# Altium footprint library 691 322 110 0xx.PcbLib: 6 footprints
Each footprint in its own frame and in the unit in brackets; x right, y up, seen from the top. Pads: shape width x height; smd on the part's side, far side on the other; paste and mask are expansions set on the pad; w line width, h text height; cw(c..) or ccw(c..) is an arc to the next point about the centre after c.
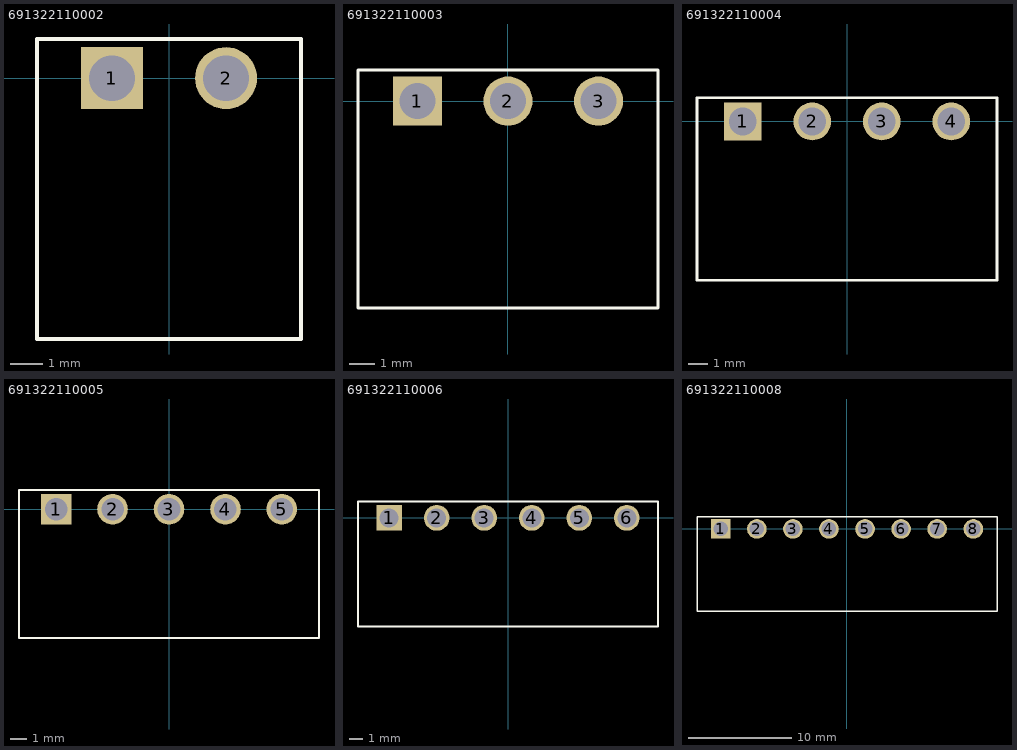
[diagram p0: the footprints below, top view; thin cyan lines are the x and y axes]

## 691322110002 [mm] "3,50mm - PCB Horizontal - 02p"
height 7
pads (2):
  rect 1.9x1.9 hole 1.4: 1(-1.75,0)
  round 1.9 hole 1.4: 2(1.75,0)
Top Overlay:
  lines w0.127: -4.05,-8 4.05,-8 4.05,1.2 -4.05,1.2 -4.05,-8
3D body: height 7.21, standoff -3.49, extent -4.05,-8 4.05,1.2

## 691322110003 [mm] "3,50mm - PCB Horizontal - 03p"
height 7
pads (3):
  rect 1.9x1.9 hole 1.4: 1(-3.5,0)
  round 1.9 hole 1.4: 2(0,0) 3(3.5,0)
Top Overlay:
  lines w0.127: -5.8,-8 5.8,-8 5.8,1.2 -5.8,1.2 -5.8,-8
3D body: height 7.21, standoff -3.49, extent -5.8,-8 5.8,1.2

## 691322110004 [mm] "3,50mm - PCB Horizontal - 04p"
height 7
pads (4):
  rect 1.9x1.9 hole 1.4: 1(-5.25,0)
  round 1.9 hole 1.4: 2(-1.75,0) 3(1.75,0) 4(5.25,0)
Top Overlay:
  lines w0.127: -7.55,-8 -7.55,1.2 7.55,1.2 7.55,-8 -7.55,-8
3D body: height 7.21, standoff -3.49, extent -7.55,-8 7.55,1.2

## 691322110005 [mm] "3,50mm - PCB Horizontal - 05p"
height 7
pads (5):
  rect 1.9x1.9 hole 1.4: 1(-7,0)
  round 1.9 hole 1.4: 2(-3.5,0) 3(0,0) 4(3.5,0) 5(7,0)
Top Overlay:
  lines w0.127: -9.3,-8 -9.3,1.2 9.3,1.2 9.3,-8 -9.3,-8
3D body: height 7.21, standoff -3.49, extent -9.3,-8 9.3,1.2

## 691322110006 [mm] "3,50mm - PCB Horizontal - 06p"
height 7
pads (6):
  rect 1.9x1.9 hole 1.4: 1(-8.75,0)
  round 1.9 hole 1.4: 2(-5.25,0) 3(-1.75,0) 4(1.75,0) 5(5.25,0) 6(8.75,0)
Top Overlay:
  lines w0.127: -11.05,-8 -11.05,1.2 11.05,1.2 11.05,-8 -11.05,-8
3D body: height 7.21, standoff -3.49, extent -11.05,-8 11.05,1.2

## 691322110008 [mm] "3,50mm - PCB Horizontal - 08p"
height 7
pads (8):
  rect 1.9x1.9 hole 1.4: 1(-12.25,0)
  round 1.9 hole 1.4: 2(-8.75,0) 3(-5.25,0) 4(-1.75,0) 5(1.75,0) 6(5.25,0) 7(8.75,0) 8(12.25,0)
Top Overlay:
  lines w0.127: -14.55,-8 14.55,-8 14.55,1.2 -14.55,1.2 -14.55,-8
3D body: height 7.21, standoff -3.49, extent -14.55,-8 14.55,1.2